# Altium footprint library RE_2010.PcbLib: 1 footprints
Each footprint in its own frame and in the unit in brackets; x right, y up, seen from the top. Pads: shape width x height; smd on the part's side, far side on the other; paste and mask are expansions set on the pad; w line width, h text height; cw(c..) or ccw(c..) is an arc to the next point about the centre after c.
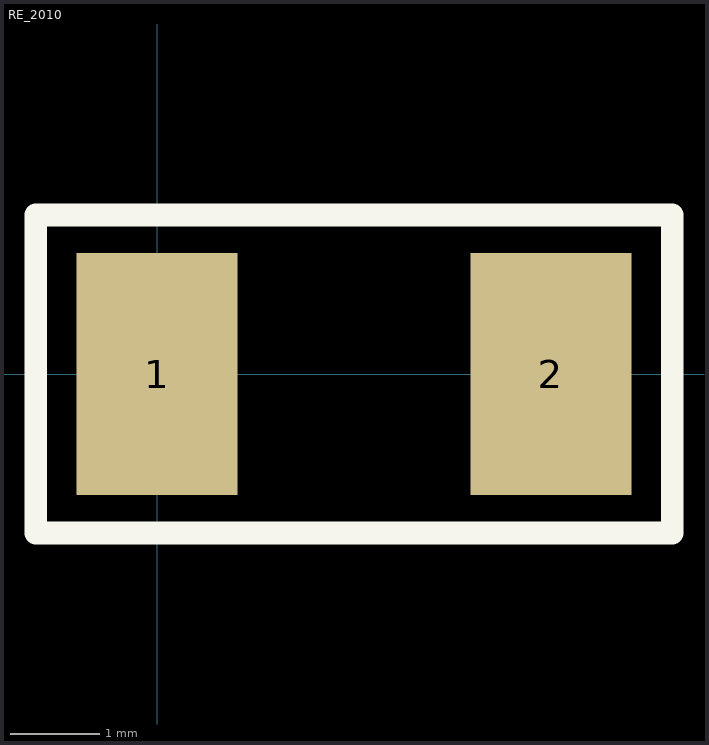
[diagram p0: the footprint, top view; thin cyan lines are the x and y axes]

## RE_2010 [mm] "Chip Resistor; Body 5 x 2.5 mm (LxW typ)"
height 0.7
pads (2):
  rect 1.8x2.7 smd: 1(0,0) 2(4.4,0)
Top Overlay:
  lines w0.254: -1.356,-1.778 -1.356,1.778 5.756,1.778 5.756,-1.778 -1.356,-1.778
3D body: height 0.62, standoff 0, extent -0.8,-1.35 5.2,1.35